# EAGLE library part ICL8038 (library Itead-IC)
ICM003
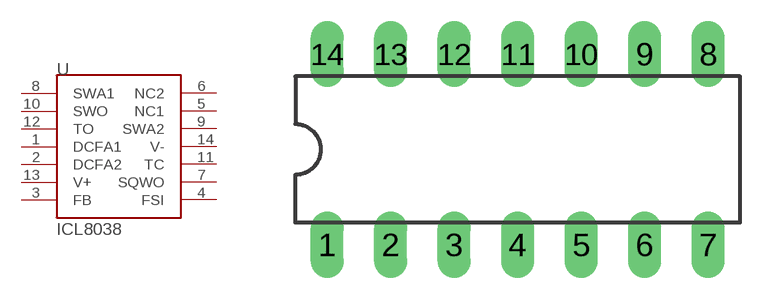
[diagram p12: symbol with the pads of DIL14; footprint DIL14]

Designator prefix U

## ICL8038  [DIL14]
1  DCFA1
2  DCFA2
3  FB
4  FSI
5  NC1
6  NC2
7  SQWO
8  SWA1
9  SWA2
10  SWO
11  TC
12  TO
13  V+
14  V-

## Footprint DIL14 (pad centres in mm)
Dual In Line Package
drill 0.813 long: 1 -7.62,-3.81; 2 -5.08,-3.81; 3 -2.54,-3.81; 4 0,-3.81; 5 2.54,-3.81; 6 5.08,-3.81; 7 7.62,-3.81; 8 7.62,3.81; 9 5.08,3.81; 10 2.54,3.81; 11 0,3.81; 12 -2.54,3.81; 13 -5.08,3.81; 14 -7.62,3.81